# EAGLE library part LF20021121-16 (library con-amp-minitek)
HEADER
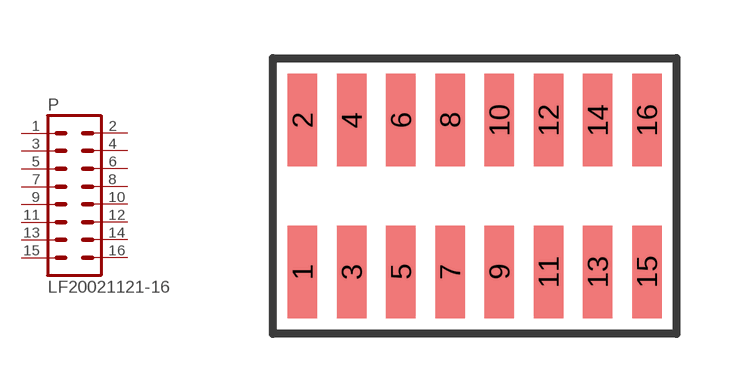
[diagram p4: symbol with the pads of LF20021121-16; footprint LF20021121-16]

Designator prefix P

## LF20021121-16  [LF20021121-16]
1  1  pas
2  2  pas
3  3  pas
4  4  pas
5  5  pas
6  6  pas
7  7  pas
8  8  pas
9  9  pas
10  10  pas
11  11  pas
12  12  pas
13  13  pas
14  14  pas
15  15  pas
16  16  pas

## Footprint LF20021121-16 (pad centres in mm)
HEADER
smd 0.762 x 2.388: 1 -4.445,-1.956; 2 -4.445,1.956; 3 -3.175,-1.956; 4 -3.175,1.956; 5 -1.905,-1.956; 6 -1.905,1.956; 7 -0.635,-1.956; 8 -0.635,1.956; 9 0.635,-1.956; 10 0.635,1.956; 11 1.905,-1.956; 12 1.905,1.956; 13 3.175,-1.956; 14 3.175,1.956; 15 4.445,-1.956; 16 4.445,1.956